# Altium footprint library Footprints.PcbLib: 54 footprints (part 2 of 4)
Each footprint in its own frame and in the unit in brackets; x right, y up, seen from the top. Pads: shape width x height; smd on the part's side, far side on the other; paste and mask are expansions set on the pad; w line width, h text height; cw(c..) or ccw(c..) is an arc to the next point about the centre after c.
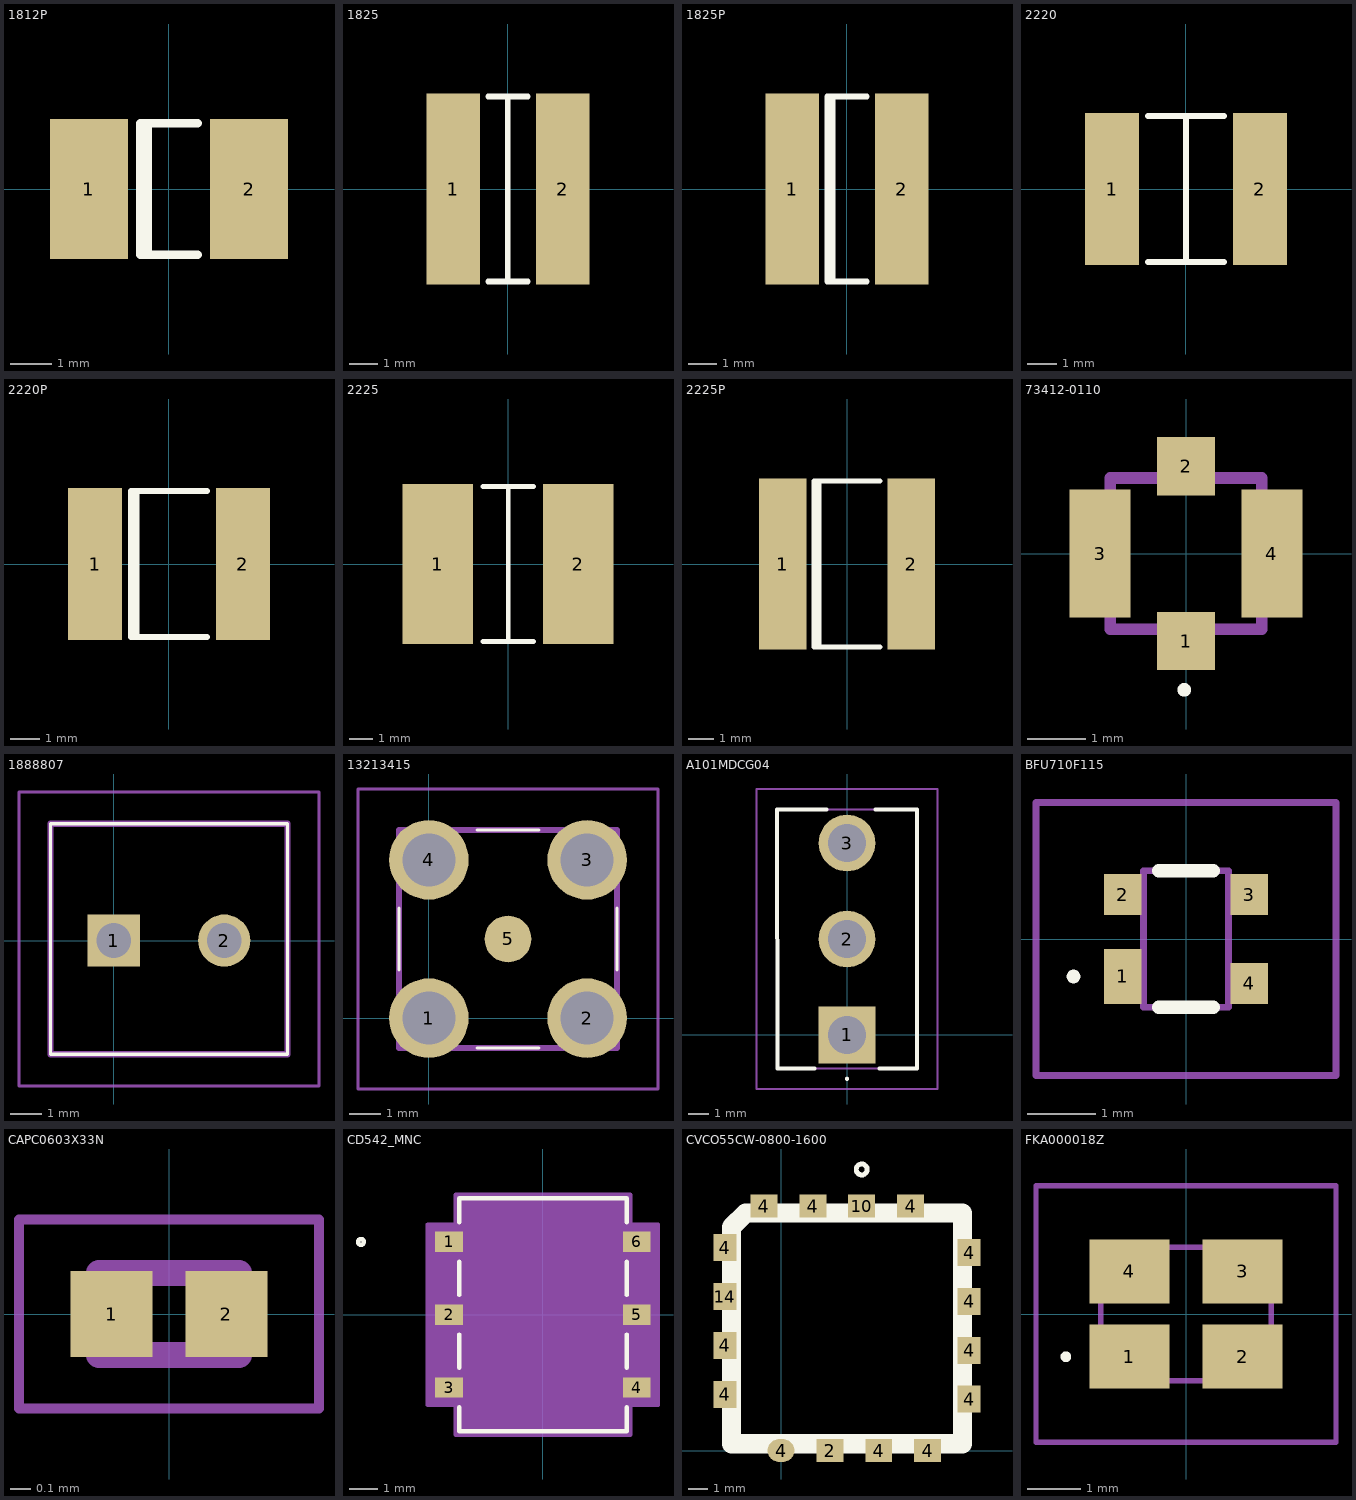
[diagram p1: the footprints below, top view; thin cyan lines are the x and y axes]

## 1812P [mm] "Body 4.5 x 3.2 mm (LxW typ)"
height 1.7
pads (2):
  rect 1.9x3.4 smd: 1(-1.95,0) 2(1.95,0)
Top Overlay:
  lines w0.2: -0.51,-1.6 -0.51,1.6 ; 0.7,-1.6 -0.7,-1.6 -0.7,1.6 0.7,1.6

## 1825 [mm] "Body 4.5 x 6.4 mm (LxW typ)"
height 1.7
pads (2):
  rect 1.9x6.8 smd: 1(-1.95,0) 2(1.95,0)
Top Overlay:
  lines w0.2: -0.7,-3.3 0.7,-3.3 ; -0.7,3.3 0.7,3.3 ; -0.002,-3.3 -0.002,3.3

## 1825P [mm] "Body 4.5 x 6.4 mm (LxW typ)"
height 1.7
pads (2):
  rect 1.9x6.8 smd: 1(-1.95,0) 2(1.95,0)
Top Overlay:
  lines w0.2: -0.51,-3.3 -0.51,3.3 ; 0.7,-3.3 -0.7,-3.3 -0.7,3.3 0.7,3.3

## 2220 [mm] "Body 5.7 x 5.0 mm (LxW typ)"
height 1.8
pads (2):
  rect 1.85x5.2 smd: 1(-2.525,0) 2(2.525,0)
Top Overlay:
  lines w0.2: -1.3,-2.5 1.3,-2.5 ; -1.3,2.5 1.3,2.5 ; 0,-2.476 0,2.476

## 2220P [mm] "Body 5.7 x 5.0 mm (LxW typ)"
height 1.8
pads (2):
  rect 1.85x5.2 smd: 1(-2.525,0) 2(2.525,0)
Top Overlay:
  lines w0.2: -1.11,-2.5 -1.11,2.5 ; 1.3,-2.5 -1.3,-2.5 -1.3,2.5 1.3,2.5

## 2225 [mm] "Body 5.6 x 6.4 mm (LxW typ)"
height 2
pads (2):
  rect 3x6.8 smd: 1(-3,0) 2(2.975,0)
Top Overlay:
  lines w0.2: -1.079,-3.3 1.079,-3.3 ; -1.079,3.3 1.079,3.3 ; 0,-3.3 0,3.3

## 2225P [mm] "Body 5.6 x 6.4 mm (LxW typ)"
height 2
pads (2):
  rect 1.9x6.8 smd: 1(-2.55,0) 2(2.55,0)
Top Overlay:
  lines w0.2: -1.11,-3.3 -1.11,3.3 ; 1.3,-3.3 -1.3,-3.3 -1.3,3.3 1.3,3.3

## 73412-0110 [mm]
pads (4):
  rect 1x1 smd: 1(0,-1.5) 2(0,1.5)
  rect 1.05x2.2 smd: 3(-1.475,0) 4(1.475,0)
Top Overlay:
  circle w0.2: c-0.03,-2.338 r0.017
Mechanical 13:
  lines w0.2: -1.3,-1.3 1.3,-1.3 1.3,1.3 -1.3,1.3 -1.3,-1.3
3D body "73412-0110.stp": height 1.3, standoff 0, extent -1.5,-1.76 1.5,1.32

## 1888807 [mm]
pads (2):
  rect 1.65x1.65 hole 1.1: 1(0,0)
  round 1.65 hole 1.1: 2(3.5,0)
Top Overlay:
  lines w0.1: -2,-3.6 -2,3.7 5.5,3.7 5.5,-3.6 -2,-3.6
Mechanical 13:
  lines w0.2: -2,-3.6 -2,3.7 5.5,3.7 5.5,-3.6 -2,-3.6
Mechanical 15:
  lines w0.1: -3,-4.6 -3,4.7 6.5,4.7 6.5,-4.6 -3,-4.6
3D body "1888807.stp": height 8.75, standoff -5, extent -2,-3.6 5.5,3.7

## 13213415 [mm]
pads (5):
  round 2.55 hole 1.7: 1(0,0) 2(5.08,0) 3(5.08,5.08) 4(0,5.08)
  round 1.5 smd: 5(2.54,2.54)
Top Overlay:
  lines w0.1: -0.96,1.54 -0.96,3.54 ; 1.54,-0.96 3.54,-0.96 ; 1.54,6.04 3.54,6.04 ; 6.04,1.54 6.04,3.54
Mechanical 13:
  lines w0.2: -0.96,-0.96 6.04,-0.96 6.04,6.04 -0.96,6.04 -0.96,-0.96
Mechanical 15:
  lines w0.1: -2.275,-2.275 7.355,-2.275 7.355,7.355 -2.275,7.355 -2.275,-2.275
3D body "132134-15.stp": height 9.58, standoff -3.89, extent -0.93,-0.94 6.07,6.06

## A101MDCG04 [mil]
pads (3):
  rect 109.49x109.49 hole 73: 1(0,0)
  round 109.49 hole 73: 2(0,185) 3(0,370)
Top Overlay:
  lines w3.94: 0,-86.61 ccw(c0,-84.65) 0,-82.68 ccw(c0,-84.65) 0,-86.61
  lines w7.87: -62.99,-65 -133.86,-65 -135,435 -39.37,435 ; 55.12,435 135,435 135,-65 62.99,-65
Mechanical 13:
  lines w3.94: -135,-65 135,-65 135,435 -135,435 -135,-65
Mechanical 15:
  lines w3.94: -174.37,-104.37 -174.37,474.37 174.37,474.37 174.37,-104.37 -174.37,-104.37
3D body "A101MDCG04.stp": height 1152.41, standoff -67.32, extent -135,-64.96 135,435.04

## BFU710F115 [mm]
pads (4):
  rect 0.55x0.8 smd: 1(-0.925,-0.55)
  rect 0.55x0.6 smd: 2(-0.925,0.65) 3(0.925,0.65) 4(0.925,-0.65)
Top Overlay:
  lines w0.1: -1.7,-0.55 cw(c-1.65,-0.55) -1.6,-0.55 cw(c-1.65,-0.55) -1.7,-0.55
  lines w0.2: -0.4,-1 0.4,-1 ; -0.4,1 0.4,1
Mechanical 13:
  lines w0.1: -0.625,-1 0.625,-1 0.625,1 -0.625,1 -0.625,-1
Mechanical 15:
  lines w0.1: -2.2,-2 2.2,-2 2.2,2 -2.2,2 -2.2,-2

## CAPC0603X33N [mm]
pads (2):
  rect 0.4x0.42 smd: 1(-0.28,0) 2(0.28,0)
Mechanical 13:
  lines w0.127: -0.34,-0.2 -0.34,0.2 0.34,0.2 0.34,-0.2 -0.34,-0.2
Mechanical 15:
  lines w0.05: -0.731,-0.461 -0.731,0.461 0.731,0.461 0.731,-0.461 -0.731,-0.461
3D body "step_temp.STEP": height 0.33, standoff 0, extent -0.3,-0.15 0.3,0.15

## CD542_MNC [mil]
pads (6):
  rect 38x28 smd paste+0 mask+0: 1(-129,100) 2(-129,0) 3(-129,-100) 4(129,-100) 5(129,0) 6(129,100)
Top Overlay:
  circle w6: c-250,100 r4
  lines w6: -115,-127.1 -115,-160 115,-160 115,-127.1 ; -115,-72.9 -115,-27.1 ; -115,27.1 -115,72.9 ; -115,127.1 -115,160 115,160 115,127.1 ; 115,-72.9 115,-27.1 ; 115,27.1 115,72.9
Mechanical 13:
  circle w0: c-110,100 r3
  lines w0: -12,155 ccw(c0,155) 12,155
  lines w1: -110,-155 -110,155 110,155 110,-155 -110,-155
Mechanical 15:
  region: -120,-124 -158,-124 -158,124 -120,124 -120,165 120,165 120,124 158,124 158,-124 120,-124 120,-165 -120,-165
  lines w6: -158,-124 -120,-124 -120,-165 120,-165 120,-124 158,-124 158,124 120,124 120,165 -120,165 -120,124 -158,124 -158,-124
3D body "CD542_MNC.step": height 112.09, standoff 0, extent -135.98,-155 135.98,155

## CVCO55CW-0800-1600 [mm]
pads (16):
  rect 1.4x1.2 smd: 2(2.54,0) 4(-0.889,12.7) 4(1.651,12.7) 4(5.08,0) 4(6.731,12.7) 4(7.62,0) 10(4.191,12.7)
  rect 1.2x1.4 smd: 4(-2.921,2.921) 4(-2.921,5.461) 4(-2.921,10.541) 4(9.779,2.667) 4(9.779,5.207) 4(9.779,7.747) 4(9.779,10.287) 14(-2.921,8.001)
  oval 1.4x1.2 smd: 4(0,0)
Top Overlay:
  circle w0.254: c4.191,14.605 r0.284
  lines w1: -2.567,0.354 -2.567,11.611 -1.832,12.346 9.425,12.346 9.425,0.354 -2.567,0.354

## FKA000018Z [mm]
pads (4):
  rect 1.5x1.2 smd: 1(-1.06,-0.8) 2(1.06,-0.8) 3(1.06,0.8) 4(-1.06,0.8)
Top Overlay:
  lines w0.1: -2.3,-0.8 ccw(c-2.25,-0.8) -2.2,-0.8 ccw(c-2.25,-0.8) -2.3,-0.8
Mechanical 13:
  lines w0.1: -1.6,-1.25 -1.6,1.25 1.6,1.25 1.6,-1.25 -1.6,-1.25
Mechanical 15:
  lines w0.1: -2.81,-2.4 -2.81,2.4 2.81,2.4 2.81,-2.4 -2.81,-2.4
3D body "FKA000018Z.stp": height 1.25, standoff 0, extent -1.69,-1.28 1.69,1.28